# EAGLE library part HCPL-092J (library 1A-meinLib)
High Speed Digital Isolators, 3.3V/5V, 100MBaud, 2.5kV, 3/1-Channel, AVAGO
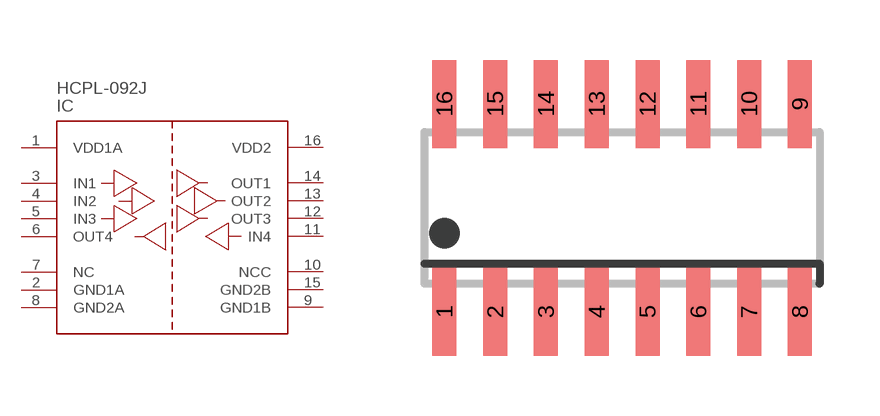
[diagram p374: symbol with the pads of SOIC16N; footprint SOIC16N]

Designator prefix IC

## HCPL-092J  [SOIC16N]
1  VDD1A  pwr
2  GND1A  pwr
3  IN1  in
4  IN2  in
5  IN3  in
6  OUT4  out
7  NC  pas
8  GND2A  pwr
9  GND1B  pwr
10  NCC  pas
11  IN4  in
12  OUT3  out
13  OUT2  out
14  OUT1  out
15  GND2B  pwr
16  VDD2  pwr

## Footprint SOIC16N (pad centres in mm)
Small Outline Package narrow Body, JEDEC MS-012-AC
smd 0.6 x 2.2: 1 -4.445,-2.6; 2 -3.175,-2.6; 3 -1.905,-2.6; 4 -0.635,-2.6; 5 0.635,-2.6; 6 1.905,-2.6; 7 3.175,-2.6; 8 4.445,-2.6; 9 4.445,2.6; 10 3.175,2.6; 11 1.905,2.6; 12 0.635,2.6; 13 -0.635,2.6; 14 -1.905,2.6; 15 -3.175,2.6; 16 -4.445,2.6